# Altium schematic symbol library IMR_LIB_SCH.SchLib: 118 symbols
Pins are listed as number, name and electrical type; pins without a type are passive.

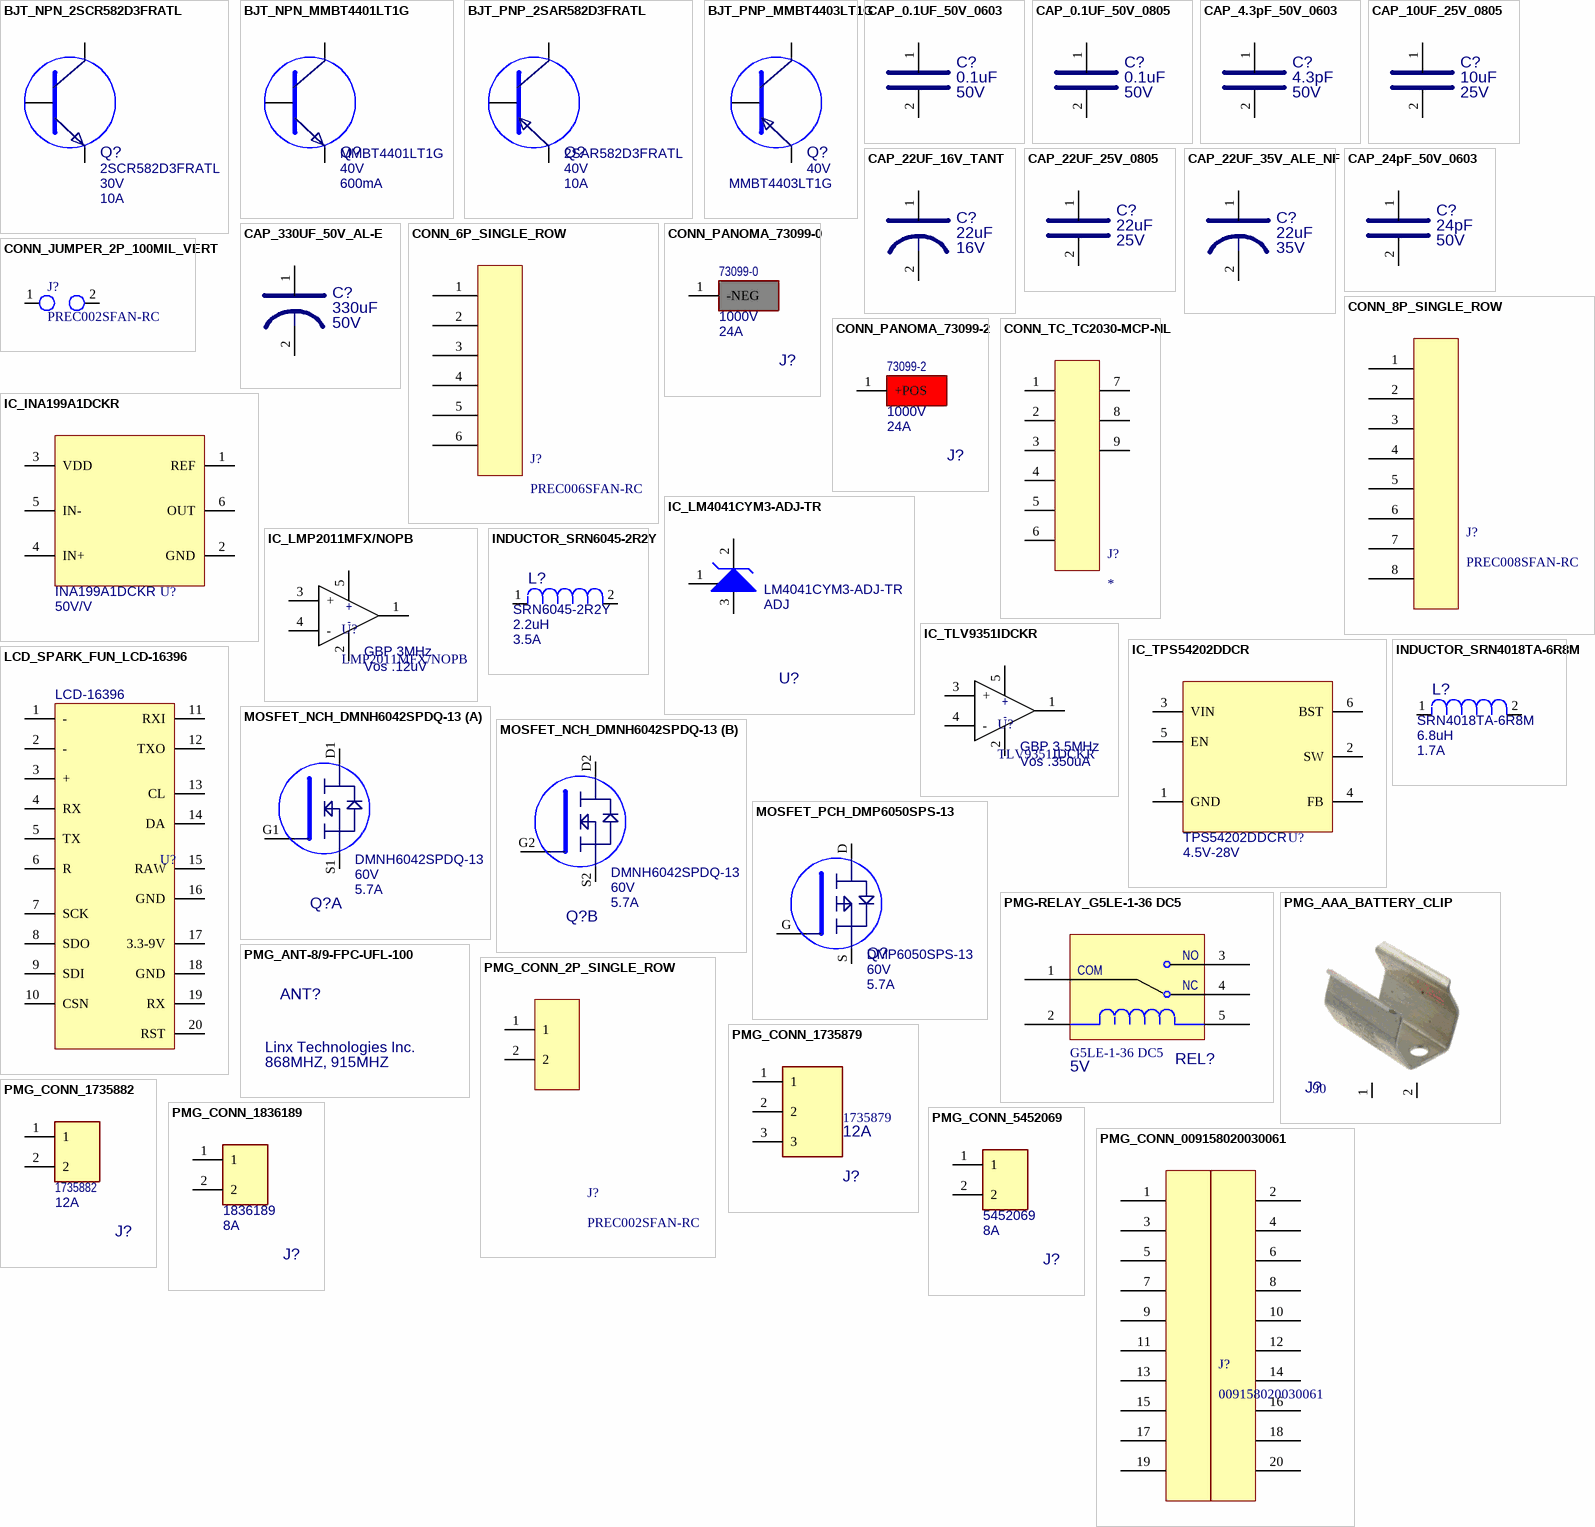
[diagram p0: symbols BJT_NPN_2SCR582D3FRATL to PMG_CONN_009158020030061]

## BJT_NPN_2SCR582D3FRATL
designator Q?, comment value 30V  Current: 10A  (hidden comment: 2SCR582D3FRATL)
TRANS NPN 30V 10A TO-252; MFG: Rohm Semiconductor; Supplier 1: Digi-Key; Supplier Part Number 1: 846-2SCR582D3FRATLCT-ND; Case/Package: TO-252; Unit Price: 1.76; MFG_PN: 2SCR582D3FRATL
footprint TO-252 (TO-252, TO-252-3, DPAK)
pins: 1 B, 2 E, 3 C

## BJT_NPN_MMBT4401LT1G
designator Q?, comment value 40V  Current: 600mA  (hidden comment: MMBT4401LT1G)
TRANS NPN 40V 0.6A SOT23-3; MFG: ON Semiconductor; Supplier 1: Digi-Key; Supplier Part Number 1: MMBT4401LT1GOSCT-ND; Case/Package: SOT-23; Unit Price: .13; MFG_PN: MMBT4401LT1G
footprint SOT-23 (SOT23-3)
pins: 1 B, 2 E, 3 C

## BJT_PNP_2SAR582D3FRATL
designator Q?, comment value 40V  Current: 10A  (hidden comment: 2SAR582D3FRATL)
TRANS PNP 40V 0.6A SOT23-3; MFG: Rohm Semiconductor; Supplier 1: Digi-Key; Supplier Part Number 1: 846-2SAR582D3FRATLCT-ND; Case/Package: TO-252; Unit Price: 1.59; MFG_PN: 2SAR582D3FRATL
footprint TO-252 (TO-252, TO-252-3, DPAK)
pins: 1 B, 2 E, 3 C

## BJT_PNP_MMBT4403LT1G
designator Q?, comment value 40V  (hidden comment: MMBT4403LT1G)
TRANS PNP 40V 0.6A SOT23-3; MFG: ON Semiconductor; Supplier 1: Digi-Key; Supplier Part Number 1: MMBT4403LT1GOSCT-ND; Case/Package: SOT-23; Unit Price: .13; MFG_PN: MMBT4403LT1G
footprint SOT-23 (SOT23-3)
pins: 1 B, 2 E, 3 C

## CAP_0.1UF_50V_0603
designator C?, comment value 0.1uF  VOLTAGE: 50V  (hidden comment: CC0603KRX7R9BB104)
CAP CER 0.1UF 50V X7R 0603; MFG: Yageo; TOLERANCE: 10%; MFG_PN: CC0603KRX7R9BB104; Supplier 1: Digi-Key; Supplier Part Number 1: 311-1344-1-ND; Case/Package: 0603; Unit Price: 0.10
footprint CAP_0603 (CAP 0603 50V)
pins: 1, 2

## CAP_0.1UF_50V_0805
designator C?, comment value 0.1uF  VOLTAGE: 50V  (hidden comment: 08055C104KAT2A)
CAP CER 0.1UF 50V X7R 0805; MFG: AVX; TOLERANCE: 10%; MFG_PN: 08055C104KAT2A; Supplier 1: Digi-Key; Supplier Part Number 1: 478-1395-1-ND; Case/Package: 0805
footprint CAP_0805
pins: 1, 2

## CAP_4.3pF_50V_0603
designator C?, comment value 4.3pF  VOLTAGE: 50V  (hidden comment: CC0603CRNPO9BN4R3)
CAP CER 4.3PF 50V NPO 0603; MFG: Yageo; TOLERANCE: .25pF; MFG_PN: CC0603CRNPO9BN4R3; Supplier 1: Digi-Key; Supplier Part Number 1: 311-3858-1-ND; Case/Package: 0603; Unit Price: 0.10
footprint CAP_0603 (CAP 0603 50V)
pins: 1, 2

## CAP_10UF_25V_0805
designator C?, comment value 10uF  VOLTAGE: 25V  (hidden comment: TMK212BBJ106KG-T)
CAP CER 10UF 25V X5R 0805; MFG: Taiyo Yuden; TOLERANCE: 10%; MFG_PN: TMK212BBJ106KG-T; Supplier 1: Digi-Key; Supplier Part Number 1: 587-2985-1-ND; Case/Package: 0805; Unit Price: .21
footprint CAP_0805
pins: 1, 2

## CAP_22UF_16V_TANT
designator C?, comment value 22uF  VOLTAGE: 16V  (hidden comment: 293D226X9016B2TE3)
CAP TANT 22UF 10% 16V 3528 (1411); MFG: Vishay Sprague; MFG_PN: 293D226X9016B2TE3; TOLERANCE: 10%; Supplier 1: Digi-Key; Supplier Part Number 1: 718-1138-1-ND; Unit Price: 0.59
footprint PMG_CAP_TANT_3528 (TANTALUM CAPACITOR 3528)
pins: 1, 2

## CAP_22UF_25V_0805
designator C?, comment value 22uF  VOLTAGE: 25V  (hidden comment: CC0805MKX5R8BB226)
CAP CER 22UF 25V X5R 0805; MFG: Yageo; TOLERANCE: 20%; MFG_PN: CC0805MKX5R8BB226; Supplier 1: Digi-Key; Supplier Part Number 1: 311-1903-1-ND; Case/Package: 0805; Unit Price: .47
footprint CAP_0805
pins: 1, 2

## CAP_22UF_35V_ALE_NF
designator C?, comment value 22uF  VOLTAGE: 35V  (hidden comment: UZS1C220MCL1GB)
CAP, AL E, 22UF, 35V, 20%, ROHS; MFG: NICHICON; MFG_PN: UZS1C220MCL1GB; TOLERANCE: 20%; Supplier 1: Digi-Key; Supplier Part Number 1: 493-10138-1-ND
footprint PMG_CAP_ALE_SMD_6.6x6.6 (CAP_ALE BODY SIZE 6.6mm x 6.6mm 3.9mm Tall)
pins: 1, 2

## CAP_24pF_50V_0603
designator C?, comment value 24pF  VOLTAGE: 50V  (hidden comment: CC0603JRNPO9BN240)
CAP CER 24PF 50V C0G/NPO 0603; MFG: Yageo; TOLERANCE: 5%; MFG_PN: CC0603JRNPO9BN240; Supplier 1: Digi-Key; Supplier Part Number 1: 311-1772-1-ND; Case/Package: 0603; Unit Price: 0.11
footprint CAP_0603 (CAP 0603 50V)
pins: 1, 2

## CAP_330UF_50V_AL-E
designator C?, comment value 330uF  VOLTAGE: 50V  (hidden comment: EEV-FK1H331Q)
CAP AL-E 330UF 20% 50V SMD; MFG: Panasonic; MFG_PN: EEV-FK1H331Q; TOLERANCE: 20%; Supplier 1: Digi-Key; Supplier Part Number 1: PCE3475CT-ND; Unit Price: 1.41
footprint PANASONIC_EEEFK0J332AQ (SMD 14.00mm Height)
pins: 1, 2

## CONN_6P_SINGLE_ROW
designator J?, comment PREC006SFAN-RC
CONN HEADER VERT 6POS 2.54MM; MFG: Sullins Connector Solutions; Case/Package: 6P_2.54MM; MFG_PN: PREC006SFAN-RC; Supplier 1: Digi-Key; Supplier Part Number 1: S1212EC-06-ND; Value: *; Unit Price: 0.16
footprint HDR_1X6_100MILL (SINGLE ROW 6 PIN HDR 2.54MM)
pins: 1, 2, 3, 4, 5, 6

## CONN_8P_SINGLE_ROW
designator J?, comment PREC008SFAN-RC
CONN HEADER VERT 8POS 2.54MM; MFG: Sullins Connector Solutions; Case/Package: 8P_2.54MM; MFG_PN: PREC008SFAN-RC; Supplier 1: Digi-Key; Supplier Part Number 1: S1212EC-08-ND; Value: *
footprint HDR_1X8_100MILL (SINGLE ROW 8 PIN HDR 2.54MM)
pins: 1, 2, 3, 4, 5, 6, 7, 8

## CONN_JUMPER_2P_100MIL_VERT
designator J?, comment PREC002SFAN-RC
CONN HEADER VERT 2POS 2.54MM; MFG: Sullins Connector Solutions; Case/Package: 2P_2.54MM; MFG_PN: PREC002SFAN-RC; Supplier 1: Digi-Key; Supplier Part Number 1: S1212EC-02-ND; Value: *; Unit Price: .07
footprint HDR_1X2_100MILL (SINGLE ROW 2 PIN HDR 2.54MM)
pins: 1, 2

## CONN_PANOMA_73099-0
designator J?, comment Current: 24A  Voltage: 1000V  (hidden comment: 73099-0)
CONN 4mm Banana Socket Right Angle PCB BLK; MFG: Pomona; Case/Package: 73099-0; Supplier 1: DigiKey; Supplier Part Number 1: 501-73099-0-ND; Unit Price: 10.39; MFG_PN: 73099-0
footprint Pomona_73099-0 (Connector Black 4mm Banana Socket Right Angle)
pins: 1 -NEG

## CONN_PANOMA_73099-2
designator J?, comment Current: 24A  Voltage: 1000V  (hidden comment: 73099-2)
CONN 4mm Banana Socket Right Angle PCB BLK; MFG: pomona; Case/Package: 73099-2; Supplier 1: DigiKey; Supplier Part Number 1: 501-73099-2-ND; Unit Price: 10.39; MFG_PN: 73099-2
footprint Pomona_73099-2 (Connector Red 4mm Banana Socket Right Angle)
pins: 1 +POS

## CONN_TC_TC2030-MCP-NL
designator J?  (no BOM)
CABLE TAG-CONNECT IN-CIRCUIT; MFG: Tag-Connect LLC; MFG_PN: TC2030-MCP-NL; Case/Package: *; Supplier 1: Digi-Key; Supplier Part Number 1: TC2030-MCP-NLTC-ND; Value: *
footprint TC2030-MCP-NL-
pins: 1, 2, 3, 4, 5, 6, 7, 8, 9

## IC_INA199A1DCKR
designator U?, comment value 50V/V  (hidden comment: INA199A1DCKR)
IC CURRENT SENSE 1.5% SC70-6; MFG: Texas Instruments; Case/Package: SC-70-6; Supplier 1: Digi-Key; Supplier Part Number 1: 296-27329-1-ND; Unit Price: .45; MFG_PN: INA199A1DCKR
footprint SC-70-6 (6-TSSOP, SC-88, SOT-363)
pins: 1 REF, 2 GND, 3 VDD, 4 IN+, 5 IN-, 6 OUT

## IC_LM4041CYM3-ADJ-TR
designator U?, comment value ADJ  (hidden comment: LM4041CYM3-ADJ-TR)
IC VREF SHUNT ADJ 0.5% SOT23-3; MFG: Microchip; Case/Package: SOT-23-3; Supplier 1: Digi-Key; Supplier Part Number 1: 576-1049-1-ND; Unit Price: .39; MFG_PN: LM4041CYM3-ADJ-TR
footprint SOT-23 (SOT23-3)
pins: 1 FB, 2 K, 3 A

## IC_LMP2011MFX/NOPB
designator U?, comment LMP2011MFX/NOPB  value GBP 3MHz  Vos: Vos .12uV
IC OPAMP GP 1 CIRCUIT SOT23-5; MFG: Texas Instruments; Uint Price: 2.33; MFG_PN: LMP2011MFX/NOPB; Package/Case: SOT-23-5; Supplier 1: DigiKey; Supplier Par Number 1: LMP2011MFX/NOPBCT-ND
footprint SOT-23-5 (AKA SC-74A, SOT-753)
pins: 1, 2, 3 +, 4 -, 5

## IC_TLV9351IDCKR
designator U?, comment TLV9351IDCKR  value GBP 3.5MHz  Vos: Vos .350uA
IC OPAMP GP 1 CIRCUIT SC70-5; MFG: Texas Instruments; Uint Price: .49; MFG_PN: TLV9351IDCKR; Package/Case: SOT-353; Supplier 1: DigiKey; Supplier Par Number 1: 296-TLV9351IDCKRCT-ND
footprint SOT-353 (AKA SC-70-5, 5-TSSOP)
pins: 1, 2, 3 +, 4 -, 5

## IC_TPS54202DDCR
designator U?, comment value 4.5V-28V  (hidden comment: TPS54202DDCR)
IC REG BUCK ADJ 2A SOT23; MFG: Texas Instruments; Case/Package: SOT-23-6; Supplier 1: Digi-Key; Supplier Part Number 1: 296-TPS54202DDCRCT-ND; Unit Price: .97; MFG_PN: TPS54202DDCR
footprint SOT-23-6 (SOT-23-6 AKA TSOT-23-6)
pins: 1 GND, 2 SW, 3 VIN, 4 FB, 5 EN, 6 BST

## INDUCTOR_SRN4018TA-6R8M
designator L?, comment value 6.8uH  Current: 1.7A  (hidden comment: SRN4018TA-6R8M)
FIXED IND 6.8UH 1.7A 98 MOHM SMD; MFG: Bourns Inc.; TOLERANCE: 20%; Supplier 1: Digi-Key; Supplier Part Number 1: SRN4018TA-6R8MCT-ND; Unit Price: .48; MFG_PN: SRN4018TA-6R8M
footprint SRN4018TA (BOURNS SERIES SRN4018TA-6R8M)
pins: 1, 2

## INDUCTOR_SRN6045-2R2Y
designator L?, comment value 2.2uH  Current: 3.5A  (hidden comment: SRN6045-2R2Y)
FIXED IND 2.2UH 3.5A 25.1MOHM SM; MFG: Bourns Inc.; TOLERANCE: 20%; Supplier 1: Digi-Key; Supplier Part Number 1: SRN6045-2R2YCT-ND; Unit Price: .55; MFG_PN: SRN6045-2R2Y
footprint SRN6045 (BOURNS SERIES SRN6045)
pins: 1, 2

## LCD_SPARK_FUN_LCD-16396
designator U?, comment LCD-16396
LCD 16X2; MFG: SparkFun; Supplier 1: Mouser; MFG_PN: LCD-16396
footprint LCD-16396 (LCD 16X2)
pins: 1 -, 2 -, 3 +, 4 RX, 5 TX, 6 R, 7 SCK, 8 SDO, 9 SDI, 10 CSN, 11 RXI, 12 TXO, 13 CL, 14 DA, 15 RAW, 16 GND, 17 3.3-9V, 18 GND, 19 RX, 20 RST

## MOSFET_NCH_DMNH6042SPDQ-13
designator Q?, comment value 60V  Current: 5.7A  (hidden comment: DMNH6042SPDQ-13)
MOSFET N-CH 60V 115MA SOT23-3; MFG: Diodes Incorporated; Case/Package: 8-PowerTDFN; Supplier 1: Digi-Key; Supplier Part Number 1: DMNH6042SPDQ-13DICT-ND; Unit Price: 1.50; MFG_PN: DMNH6042SPDQ-13
footprint TRANS_DMP2002UPS-13
part A pins: D1 D, G1 G, S1 S
part B pins: D2 D, G2 G, S2 S

## MOSFET_PCH_DMP6050SPS-13
designator Q?, comment value 60V  Current: 5.7A  (hidden comment: DMP6050SPS-13)
MOSFET P-CH 60V 5.7A PWRDI5060-8; MFG: Diodes Inc; Supplier 1: Digi-Key; Supplier Part Number 1: DMP6050SPS-13DICT-ND; Unit Price: 1.07; MFG_PN: DMP6050SPS-13
footprint DMP3007SPS13
pins: D, G, S

## PMG-RELAY_G5LE-1-36 DC5
designator REL?, comment value 5V  (hidden comment: G5LE-1-36 DC5)
RELAY GEN PURPOSE SPDT 10A 5V; MFG: Omron Electronics Inc-EMC Div; Case/Package: 1 Form C; Supplier 1: Digi-Key; Supplier Part Number 1: G5LE-1-36DC5-ND; MFG_PN: G5LE-1-36 DC5
footprint PMG_G5LE-1 (Relay G5LE-1-36 DC5)
pins: 1 COM, 2, 3 NO, 4 NC, 5

## PMG_AAA_BATTERY_CLIP
designator J?, comment 90
Cylindrical Battery Contacts, Clips, Holders & Springs AAA BATTERY CLIP; MFG: Keystone Electronics; Case/Package: 90; Supplier 1: Digi-Key; Supplier Part Number 1: 36-90-ND; Unit Price: 0.39; MFG_PN: 90
footprint KEYSTONE_90 (KEYSTONE ELECTRONICS AAA BATTERY HOLDER)
pins: 1, 2

## PMG_ANT-8/9-FPC-UFL-100
designator ANT?, comment MFG: Linx Technologies Inc.  FREQUENCY: 868MHZ, 915MHZ  (hidden comment: ANT-8/9-FPC-UFL-100)
RES SMD 931 OHM 1% 1/10W 0603; Case/Package: ADHESIVE; MFG_PN: ANT-8/9-FPC-UFL-100; Supplier 1: Digi-Key; Supplier Part Number 1: 343-ANT-8/9-FPC-UFL-100-ND; Unit Price: 5.95

## PMG_CONN_2P_SINGLE_ROW
designator J?, comment PREC002SFAN-RC
CONN HEADER VERT 2POS 2.54MM; MFG: Sullins Connector Solutions; Case/Package: 2P_2.54MM; MFG_PN: PREC002SFAN-RC; Supplier 1: Digi-Key; Supplier Part Number 1: S1212EC-02-ND; Value: *; Unit Price: .07
footprint HDR_1X2_100MILL (SINGLE ROW 2 PIN HDR 2.54MM)
pins: 1, 2

## PMG_CONN_1735879
designator J?, comment value 12A  (hidden comment: 1735879)
TERM BLOCK HDR 3POS 90DEG 5.08MM; MFG: Phoenix Contact; Case/Package: 1735879; Supplier 1: Digi-Key; Supplier Part Number 1: 277-13847-ND; Unit Price: 1.72; MFG_PN: 1735879
footprint PMG_CONN_1735879 (TERM BLOCK HDR 3POS 90DEG 5.08MM)
pins: 1, 2, 3

## PMG_CONN_1735882
designator J?, comment value 12A  (hidden comment: 1735882)
TERM BLOCK HDR 2POS 90DEG 5.08MM; MFG: Phoenix Contact; Case/Package: 1735882; Supplier 1: Digi-Key; Supplier Part Number 1: 277-8637-ND; Unit Price: 1.14; MFG_PN: 1735882
footprint PMG_CONN_1735879 (TERM BLOCK HDR 3POS 90DEG 5.08MM)
pins: 1, 2

## PMG_CONN_1836189
designator J?, comment value 8A  (hidden comment: 1836189)
TERM BLOCK HDR 2POS 90DEG 5.08MM GREEN; MFG: Phoenix Contact; Case/Package: MC1.5; Supplier 1: Digi-Key; Supplier Part Number 1: 277-6377-ND; Unit Price: 0.90; MFG_PN: 1836189
footprint PMG_CONN_1836189 (TERM BLOCK HDR 3POS 90DEG 5.08MM GREEN)
pins: 1, 2

## PMG_CONN_5452069
designator J?, comment value 8A  (hidden comment: 5452069)
TERM BLOCK HDR 2POS 90DEG 5.08MM BLACK; MFG: Phoenix Contact; Case/Package: BCH-508HS; Supplier 1: Digi-Key; Supplier Part Number 1: 277-11394-ND; Unit Price: 0.63; MFG_PN: 5452069
footprint PMG_CONN_5452069 (TERM BLOCK HDR 3POS 90DEG 5.08MM BLACK)
pins: 1, 2

## PMG_CONN_009158020030061
designator J?, comment 009158020030061
CONN STACKING 20 POS SM; MFG: AVX Corporation; Case/Package: 009158020030061; MFG_PN: 009158020030061; Supplier 1: Digi-Key; Supplier Part Number 1: 478-009158020030061TR-ND; Value: *; Unit Price: 0.8845
footprint PMG_CONN_009158020030061 (AVX CONN 009158020030061)
pins: 1, 2 1, 3, 4, 5, 6, 7, 8, 9, 10, 11, 12, 13, 14, 15, 16, 17, 18, 19, 20

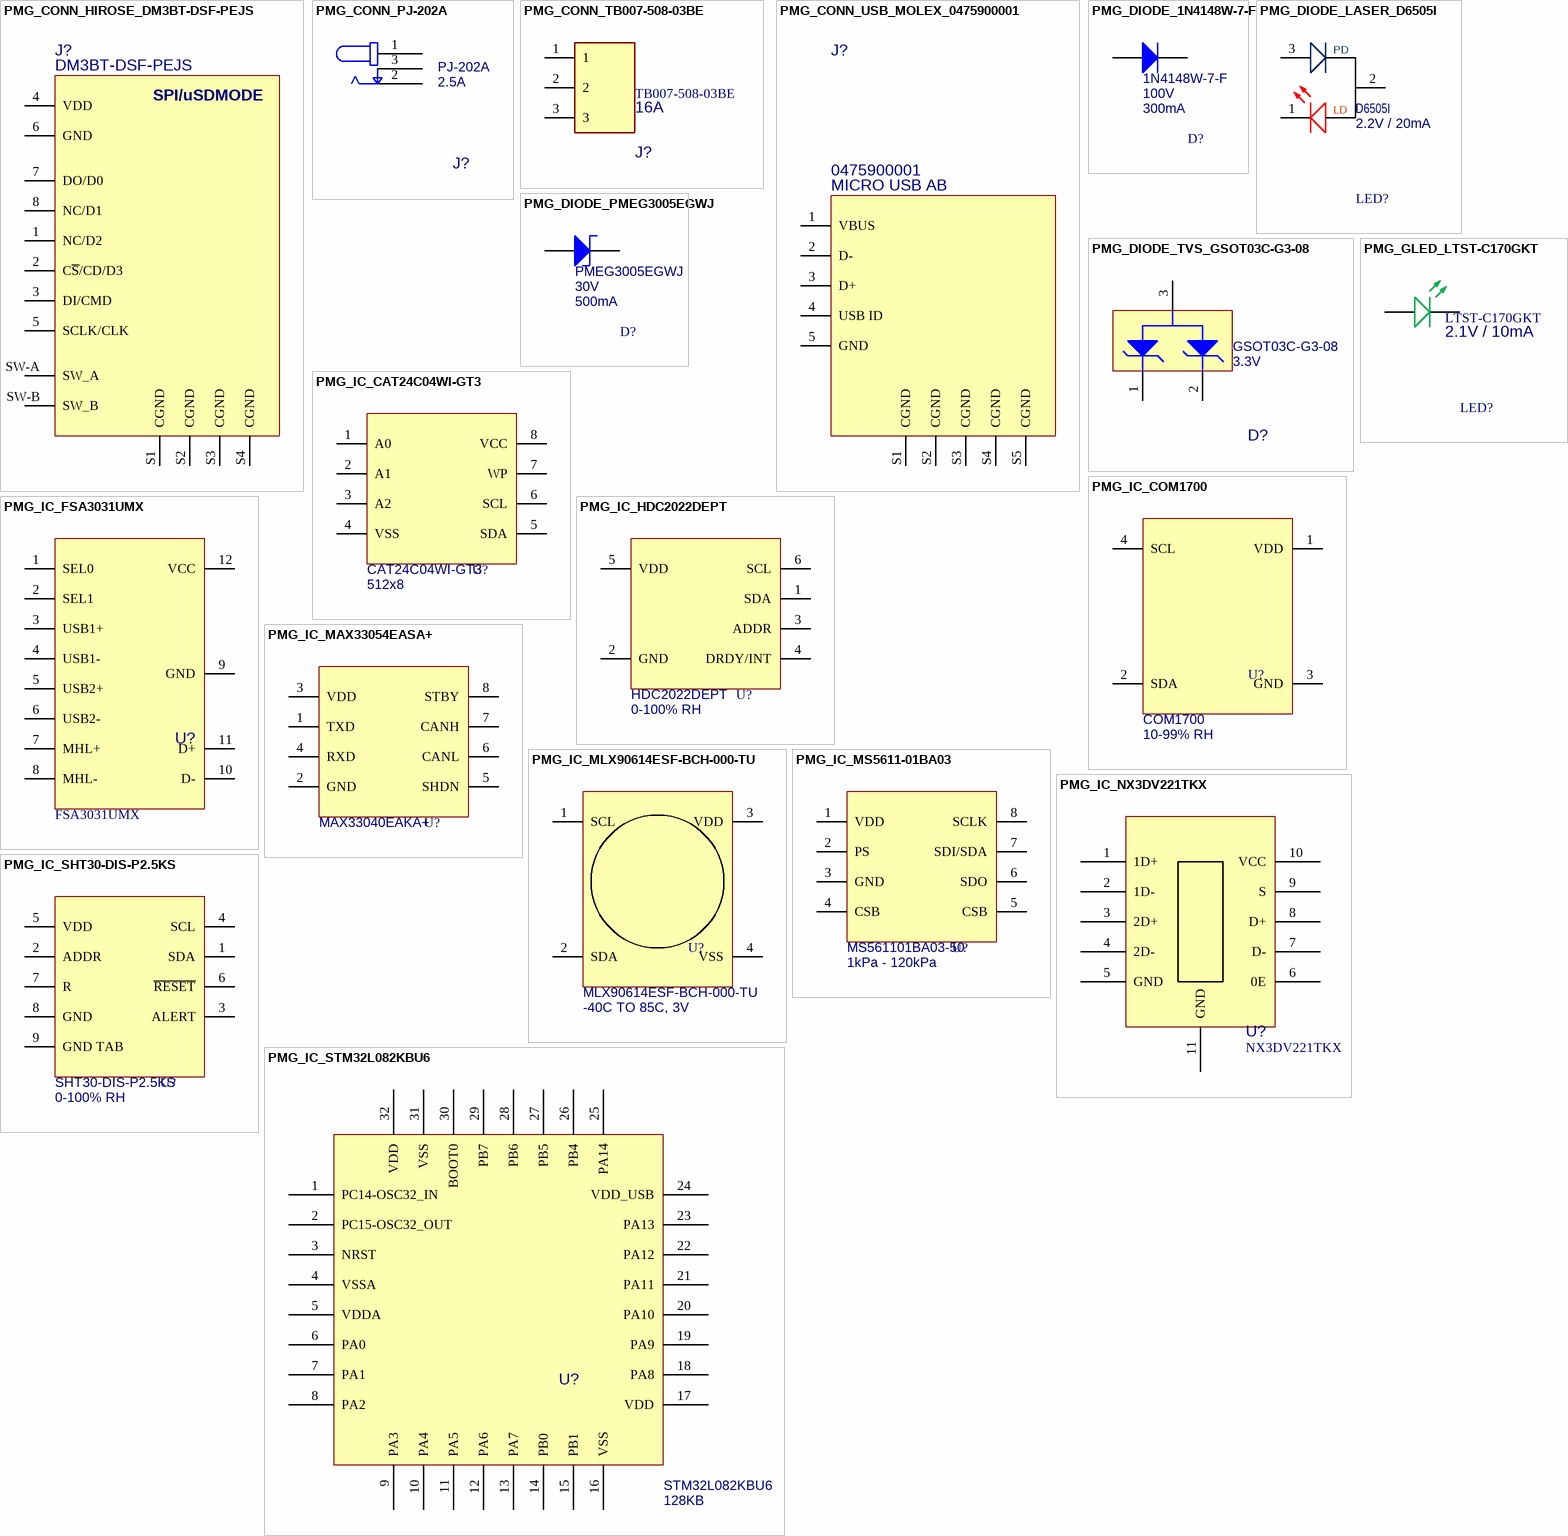
[diagram p1: symbols PMG_CONN_HIROSE_DM3BT-DSF-PEJS to PMG_IC_STM32L082KBU6]

## PMG_CONN_HIROSE_DM3BT-DSF-PEJS
designator J?, comment DM3BT-DSF-PEJS
CONN MICRO SD CARD PUSH-PUSH R/A; MFG: Hirose Electric Co Ltd; MFG_PN: DM3BT-DSF-PEJS; Supplier 1: Digi-Key; Supplier Part Number 1: HR1942CT-ND; Unit Price: 2.3; VALUE: DM3BT-DSF-PEJS
footprint HRS_DM3BT-DSF-PEJS (HIROSE_DM3BT-DSF-PEJS)
pins: 1 NC/D2, 2 C~{S}/CD/D3, 3 DI/CMD, 4 VDD, 5 SCLK/CLK, 6 GND, 7 DO/D0, 8 NC/D1, S1 CGND, S2 CGND, S3 CGND, S4 CGND, SW-A SW_A, SW-B SW_B
text: SPI/uSDMODE

## PMG_CONN_PJ-202A
designator J?, comment value 2.5A  (hidden comment: PJ-202A)
CONN PWR JACK 2X5.5MM KINKED PIN; MFG: CUI Devices; Supplier 1: Digi-Key; Supplier Part Number 1: CP-202A-ND; Unit Price: 0.60; MFG_PN: PJ-202A
footprint PMG_CONN_PJ-202A (CUI PJ-202A CONNECTOR)
pins: 1, 2, 3

## PMG_CONN_TB007-508-03BE
designator J?, comment value 16A  (hidden comment: TB007-508-03BE)
TERMINAL BLOCK, SCREW TYPE, 5.08; MFG: CUI Devices; Supplier 1: Digi-Key; Supplier Part Number 1: 102-6204-ND; MFG_PN: TB007-508-03BE
footprint PMG_TB007-508-03BE (CONN RELAY BLOCK)
pins: 1, 2, 3

## PMG_CONN_USB_MOLEX_0475900001
designator J?, comment value MICRO USB AB  (hidden comment: 0475900001)
CONN RCPT MICRO USB AB 5P SMD RA; MFG: Molex; Supplier 1: Digi-Key; Supplier Part Number 1: WM17144CT-ND; Unit Price: .78; MFG_PN: 0475900001
footprint MICRO_USB_AB_MOLEX_0475900001 (MICRO USB AB MOLEX 0475900001)
pins: 1 VBUS, 2 D-, 3 D+, 4 USB ID, 5 GND, S1 CGND, S2 CGND, S3 CGND, S4 CGND, S5 CGND

## PMG_DIODE_1N4148W-7-F
designator D?, comment value 100V  CURRENT: 300mA  (hidden comment: 1N4148W-7-F)
DIODE GEN PURP 100V 300MA SOD123; MFG: Diodes Incorporated; Case/Package: SOD-123; Supplier 1: Digi-Key; Supplier Part Number 1: 1N4148W-FDICT-ND; Unit Price: 0.16; MFG_PN: 1N4148W-7-F
footprint SOD123
pins: 1 A, 2 K

## PMG_DIODE_LASER_D6505I
designator LED?, comment value 2.2V / 20mA  (hidden comment: D6505I)
LASER DIODE 650NM 5MW TO18; MFG: US-Lasers Inc.; Case/Package: 0805; Supplier 1: Digi-Key; Supplier Part Number 1: 38-1007-ND; Unit Price: 12.50; MFG_PN: D6505I
footprint D6505I (D6505I LASER DIOIDE)
pins: 1 LD, 2 K, 3 PD

## PMG_DIODE_PMEG3005EGWJ
designator D?, comment value 30V  CURRENT: 500mA  (hidden comment: PMEG3005EGWJ)
DIODE GEN PURP 100V 300MA SOD123; MFG: Nexperia USA Inc.; Case/Package: SOD-123; Supplier 1: Digi-Key; Supplier Part Number 1: 1727-7342-1-ND; Unit Price: 0.29; MFG_PN: PMEG3005EGWJ
footprint SOD123
pins: 1 A, 2 K

## PMG_DIODE_TVS_GSOT03C-G3-08
designator D?, comment value 3.3V  (hidden comment: GSOT03C-G3-08)
TVS DIODE 3.3V 12.3V SOT23; MFG: Vishay Semiconductor; POWER: 30A (8/20us); Case/Package: SOT-23; Supplier 1: Digi-Key; Supplier Part Number 1: GSOT03C-G3-08GICT-ND; Unit Price: .44; MFG_PN: GSOT03C-G3-08
footprint SOT-23 (SOT23-3)
pins: 1 A1, 2 A2, 3 A

## PMG_GLED_LTST-C170GKT
designator LED?, comment value 2.1V / 10mA  (hidden comment: LTST-C170GKT)
DIODE, LED GREEN CLEAR SMD; MFG: Lite-On Inc.; Case/Package: 0805; Supplier 1: Digi-Key; Supplier Part Number 1: 160-1179-1-ND; Unit Price: 0.30; MFG_PN: LTST-C170GKT
footprint PMG_LTST-C170GKT (LTST-C170GKT)
pins: 1 A, 2 K

## PMG_IC_CAT24C04WI-GT3
designator U?, comment value 512x8  (hidden comment: CAT24C04WI-GT3)
IC EEPROM 4KBIT I2C 400KHZ 8SOIC; MFG: On Semi; Case/Package: 8-SOIC; Supplier 1: Digi-Key; Supplier Part Number 1: CAT24C04WI-GT3OSCT-ND; Unit Price: .18; MFG_PN: CAT24C04WI-GT3
footprint SOIC-8_54 (SOIC 8 PIN IC 5.4mm PIN TO PIN WIDTH)
pins: 1 A0, 2 A1, 3 A2, 4 VSS, 5 SDA, 6 SCL, 7 WP, 8 VCC

## PMG_IC_COM1700
designator U?, comment value 10-99% RH  (hidden comment: COM1700)
AM2320 DIGITAL TEMPERATURE AND H; MFG: Pimoroni Ltd; Case/Package: TH 4PIN; Supplier 1: Digi-Key; Supplier Part Number 1: 1778-1179-ND; Unit Price: 3.90; MFG_PN: COM1700
footprint COM1700 (AOSONG COM1700)
pins: 1 VDD, 2 SDA, 3 GND, 4 SCL

## PMG_IC_FSA3031UMX
designator U?, comment FSA3031UMX
IC INTERFACE SPECIALIZED 12UMLP; MFG: ON Semiconductor; Case/Package: 10-DFN; Supplier 1: Digi-Key; Supplier Part Number 1: FSA3031UMXCT-ND; Unit Price: .60; MFG_PN: FSA3031UMX
footprint UFQFN-12 (ON SMEMICONDUCTOR 12-UMLP 1.8x1.8)
pins: 1 SEL0, 2 SEL1, 3 USB1+, 4 USB1-, 5 USB2+, 6 USB2-, 7 MHL+, 8 MHL-, 9 GND, 10 D-, 11 D+, 12 VCC

## PMG_IC_HDC2022DEPT
designator U?, comment value 0-100% RH  (hidden comment: HDC2022DEPT)
Humidity, Temperature Sensor I²C Output; MFG: Texas Instruments; Case/Package: HDCx; Supplier 1: Digi-Key; Supplier Part Number 1: 296-HDC2022DEPTCT-ND; Unit Price: 5.42; MFG_PN: HDC2022DEPT
footprint SON100P300X300X115-7N
pins: 1 SDA, 2 GND, 3 ADDR, 4 DRDY/INT, 5 VDD, 6 SCL

## PMG_IC_MAX33054EASA+
designator U?, comment MAX33040EAKA+
IC TRANSCEIVER HALF 1/1 SOT23-8; MFG: Maxim Integrated; VALUE: CAN 2.0; Case/Package: 8-SMD; Supplier 1: Digi-Key; Supplier Part Number 1: 175-MAX33040EAKA+-ND; Unit Price: 2.45; MFG_PN: MAX33040EAKA+
footprint SOT65P280X145-8N
pins: 1 TXD, 2 GND, 3 VDD, 4 RXD, 5 SHDN, 6 CANL, 7 CANH, 8 STBY

## PMG_IC_MLX90614ESF-BCH-000-TU
designator U?, comment value -40C TO 85C, 3V  (hidden comment: MLX90614ESF-BCH-000-TU)
SENSOR DGTL -40C-85C TO39; MFG: Melexis Technologies NV; Case/Package: TO-39; Supplier 1: Digi-Key; Supplier Part Number 1: MLX90614ESF-BCH-000-TU-ND; Unit Price: 37.20; MFG_PN: MLX90614ESF-BCH-000-TU
footprint PMG_MLX90614ESF-BCH-000-TU (TO-39 4 PIN)
pins: 1 SCL, 2 SDA, 3 VDD, 4 VSS

## PMG_IC_MS5611-01BA03
designator U?, comment value 1kPa - 120kPa  (hidden comment: MS561101BA03-50)
BAROMETRIC PRESSURE SENSOR; MFG: TE Connectivity Measurement; Case/Package: 8-SMD; Supplier 1: Digi-Key; Supplier Part Number 1: 223-1622-1-ND; Unit Price: 9.66; MFG_PN: MS561101BA03-50
footprint SON125P500X300X100-8N
pins: 1 VDD, 2 PS, 3 GND, 4 CSB, 5 CSB, 6 SDO, 7 SDI/SDA, 8 SCLK

## PMG_IC_NX3DV221TKX
designator U?, comment NX3DV221TKX
IC USB 2.0 SWITCH HS 10HVSON; MFG: NXP USA Inc.; Case/Package: 10-DFN; Supplier 1: Digi-Key; Supplier Part Number 1: 568-10368-1-ND; Unit Price: 0.56; MFG_PN: NX3DV221TKX
footprint PMG_NX3DV221TKX (SWDAT_IC USB 2.0 SWITCH HS 10HVSON)
pins: 1 1D+, 2 1D-, 3 2D+, 4 2D-, 5 GND, 6 0E, 7 D-, 8 D+, 9 S, 10 VCC, 11 GND

## PMG_IC_SHT30-DIS-P2.5KS
designator U?, comment value 0-100% RH  (hidden comment: SHT30-DIS-P2.5KS)
Humidity Temperature Sensor 0 ~ 100% RH I²C ±2% RH 8 s Surface Mount; MFG: Sensirion; Case/Package: HDCx; Supplier 1: Digi-Key; Supplier Part Number 1: 1649-1082-1-ND; Unit Price: 5.50; MFG_PN: SHT30-DIS-P2.5KS
footprint SENSIRION_SHT31x (Sensirion Temp Humidity Sensor)
pins: 1 SDA, 2 ADDR, 3 ALERT, 4 SCL, 5 VDD, 6 ~{RESET}, 7 R, 8 GND, 9 GND TAB

## PMG_IC_STM32L082KBU6
designator U?, comment value 128KB  (hidden comment: STM32L082KBU6)
IC, MICRO CONTROLLER MCU 32BIT 128KB FLASH 32QFPN; MFG: STMicroelectronics; Case/Package: 32QFN; Supplier 1: Digi-Key; Supplier Part Number 1: 497-18585-ND; Unit Price: 4.69; MFG_PN: STM32L082KBU6
footprint QFN50P500X500X60-33N
pins: 1 PC14-OSC32_IN, 2 PC15-OSC32_OUT, 3 NRST, 4 VSSA, 5 VDDA, 6 PA0, 7 PA1, 8 PA2, 9 PA3, 10 PA4, 11 PA5, 12 PA6, 13 PA7, 14 PB0, 15 PB1, 16 VSS, 17 VDD, 18 PA8, 19 PA9, 20 PA10, 21 PA11, 22 PA12, 23 PA13, 24 VDD_USB, 25 PA14, 26 PB4, 27 PB5, 28 PB6, 29 PB7, 30 BOOT0, 31 VSS, 32 VDD, 33 hidden to GND

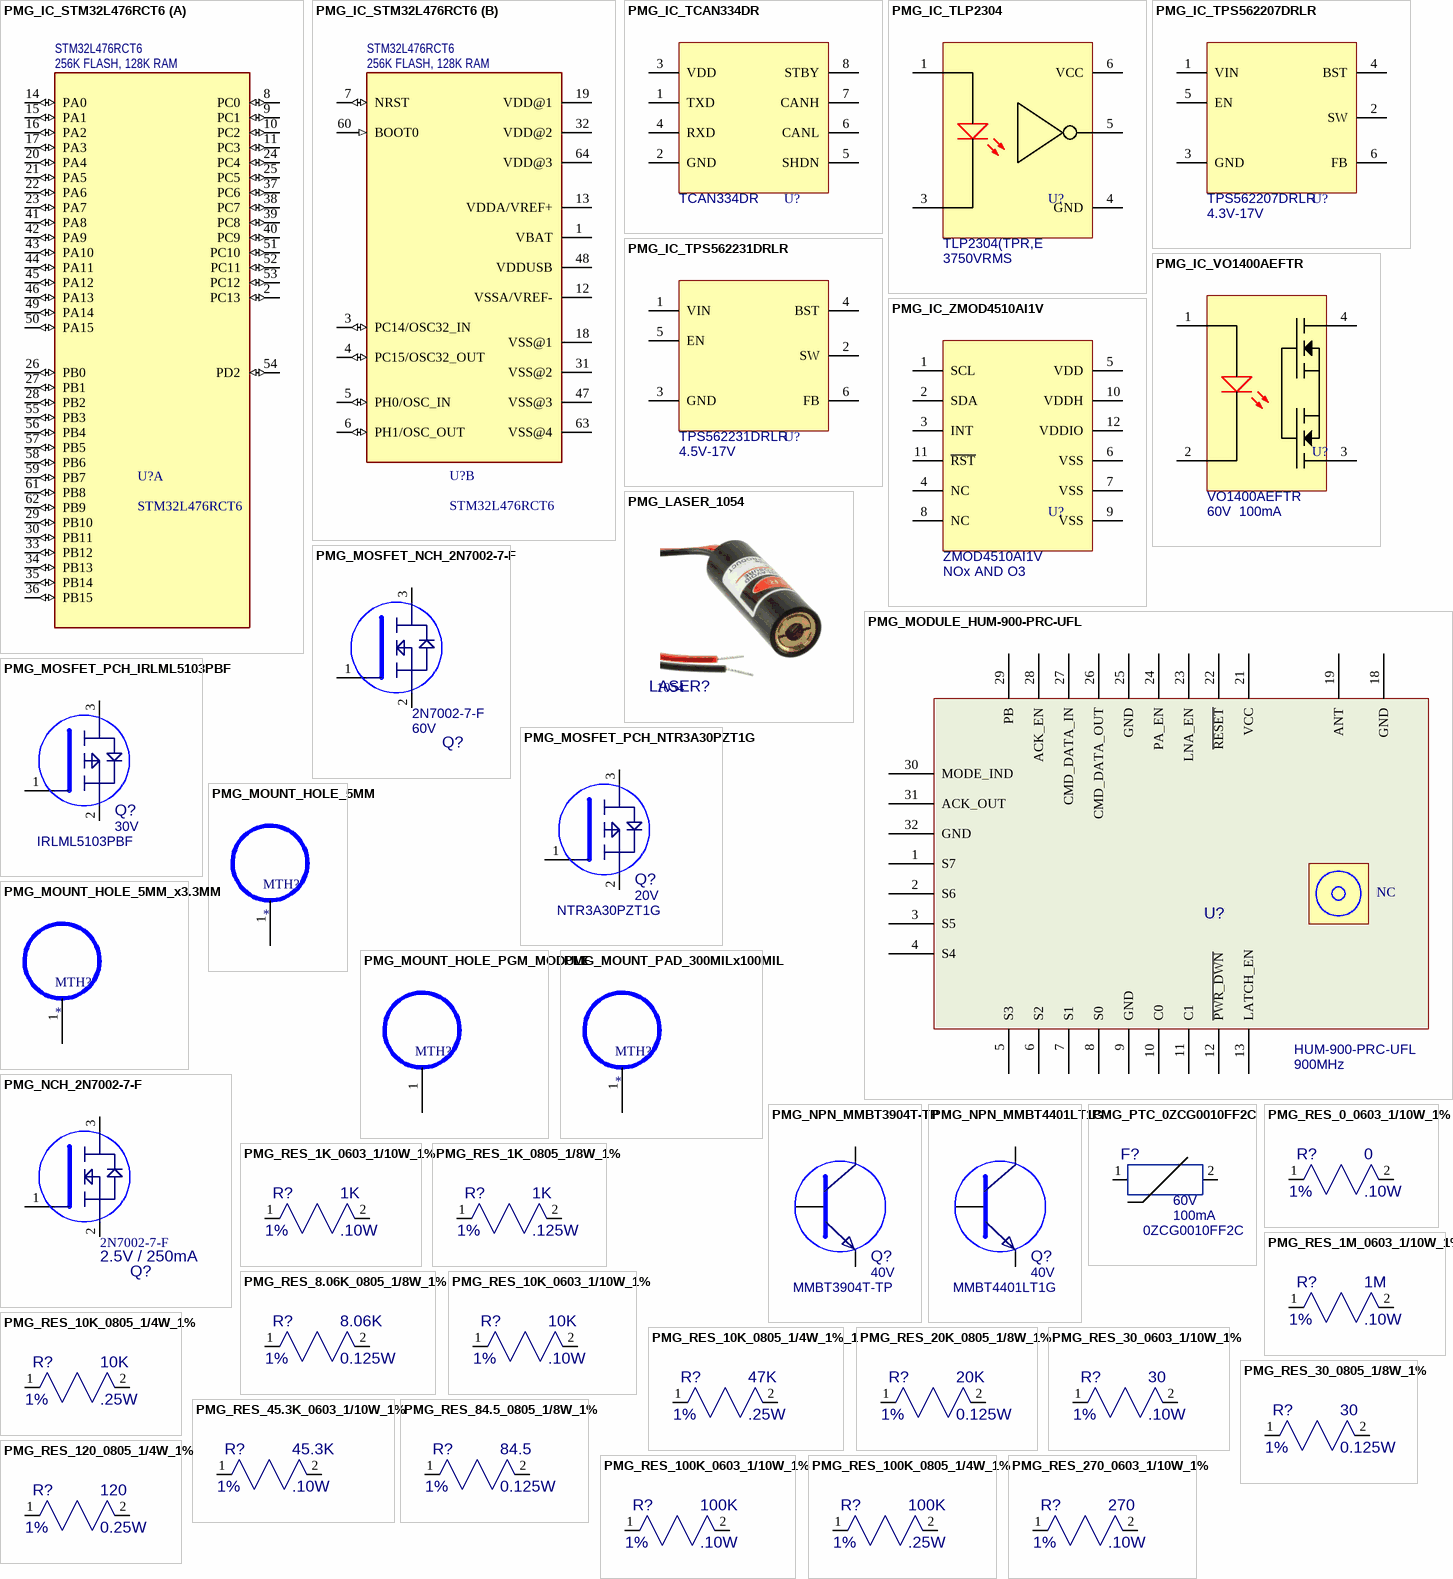
[diagram p2: symbols PMG_IC_STM32L476RCT6 to PMG_RES_270_0603_1/10W_1%]

## PMG_IC_STM32L476RCT6
designator U?, comment STM32L476RCT6  value 256K FLASH, 128K RAM
IC MCU 32BIT 256KB FLASH 64LQFP; MFG: STMicroelectronics; Supplier 1: 8.04; Supplier Part Number 1: 497-17541-ND; Unit Price: 8.04; Case/Package: LQFP-64; MFG_PN: STM32L476RCT6
footprint QFP50P120X120X160-64N
part A pins: 2 PC13 (io), 8 PC0 (io), 9 PC1 (io), 10 PC2 (io), 11 PC3 (io), 14 PA0 (io), 15 PA1 (io), 16 PA2 (io), 17 PA3 (io), 20 PA4 (io), 21 PA5 (io), 22 PA6 (io), 23 PA7 (io), 24 PC4 (io), 25 PC5 (io), 26 PB0 (io), 27 PB1 (io), 28 PB2 (io), 29 PB10 (io), 30 PB11 (io), 33 PB12 (io), 34 PB13 (io), 35 PB14 (io), 36 PB15 (io), 37 PC6 (io), 38 PC7 (io), 39 PC8 (io), 40 PC9 (io), 41 PA8 (io), 42 PA9 (io), 43 PA10 (io), 44 PA11 (io), 45 PA12 (io), 46 PA13 (io), 49 PA14 (io), 50 PA15 (io), 51 PC10 (io), 52 PC11 (io), 53 PC12 (io), 54 PD2 (io), 55 PB3 (io), 56 PB4 (io), 57 PB5 (io), 58 PB6 (io), 59 PB7 (io), 61 PB8 (io), 62 PB9 (io)
part B pins: 1 VBAT (power), 3 PC14/OSC32_IN (io), 4 PC15/OSC32_OUT (io), 5 PH0/OSC_IN (io), 6 PH1/OSC_OUT (io), 7 NRST (io), 12 VSSA/VREF- (power), 13 VDDA/VREF+ (power), 18 VSS@1 (power), 19 VDD@1 (power), 31 VSS@2 (power), 32 VDD@2 (power), 47 VSS@3 (power), 48 VDDUSB (power), 60 BOOT0 (in), 63 VSS@4 (power), 64 VDD@3 (power)

## PMG_IC_TCAN334DR
designator U?, comment TCAN334DR
IC CAN TRANSCEIVER 1/1 8SOIC; MFG: Texas Instruments; VALUE: CAN 2.0; Case/Package: 8-SMD; Supplier 1: Digi-Key; Supplier Part Number 1: 296-44139-1-ND; Unit Price: 2.81; MFG_PN: TCAN334DR
footprint SOIC-8_54 (SOIC 8 PIN IC 5.4mm PIN TO PIN WIDTH)
pins: 1 TXD, 2 GND, 3 VDD, 4 RXD, 5 SHDN, 6 CANL, 7 CANH, 8 STBY

## PMG_IC_TLP2304
designator U?, comment value 3750VRMS  (hidden comment: TLP2304(TPR,E)
PHOTOCOUPLER HIGH SPEED 5PIN; MFG: Toshiba Semiconductor and Storage; Case/Package: 6-SO; Supplier 1: Digi-Key; Supplier Part Number 1: TLP2304(TPRECT-ND; Unit Price: 1.08; MFG_PN: TLP2304(TPR,E
footprint SO-5_TLP2304 (SO-5 PACKAGE TLP2304 PIN OUT)
pins: 1, 3, 4 GND, 5 OC, 6 VCC

## PMG_IC_TPS562207DRLR
designator U?, comment value 4.3V-17V  (hidden comment: TPS562207DRLR)
4.3-V TO 17-V INPUT, 2-A SYNCHRO; MFG: Texas Instruments; Case/Package: SOT-563; Supplier 1: Digi-Key; Supplier Part Number 1: 296-TPS562207DRLRCT-ND; Unit Price: .69; MFG_PN: TPS562207DRLR
footprint SOT-666 (SOT-563 AND SOT-666 COMPATIBLE)
pins: 1 VIN, 2 SW, 3 GND, 4 BST, 5 EN, 6 FB

## PMG_IC_TPS562231DRLR
designator U?, comment value 4.5V-17V  (hidden comment: TPS562231DRLR)
4.3-V TO 17-V INPUT, 2-A SYNCHRO; MFG: Texas Instruments; Case/Package: SOT-563; Supplier 1: Digi-Key; Supplier Part Number 1: 296-TPS562231DRLRCT-ND; Unit Price: .63; MFG_PN: TPS562231DRLR
footprint SOT-666 (SOT-563 AND SOT-666 COMPATIBLE)
pins: 1 VIN, 2 SW, 3 GND, 4 BST, 5 EN, 6 FB

## PMG_IC_VO1400AEFTR
designator U?, comment value 60V  100mA  (hidden comment: VO1400AEFTR)
DIODE, LED RED CLEAR SMD; MFG: Vishay Semiconductor Opto Division; Case/Package: 0805; Supplier 1: Digi-Key; Supplier Part Number 1: VO1400AEFCT-ND; Unit Price: 1.08; MFG_PN: VO1400AEFTR
footprint 4-SOP (SOIC254P695X242-4N)
pins: 1, 2, 3, 4

## PMG_IC_ZMOD4510AI1V
designator U?, comment value NOx AND O3  (hidden comment: ZMOD4510AI1V)
OAQ INTEGRATED SENSOR W/I2C OUTP; MFG: Renesas Electronics America Inc; Case/Package: LGA-12; Supplier 1: Digi-Key; Supplier Part Number 1: 800-4329-ND; Unit Price: 7.24; MFG_PN: ZMOD4510AI1V
footprint LGA-12 (RENESAS ZMOD4510 12-LGA PACKAGE)
pins: 1 SCL, 2 SDA, 3 INT, 4 NC, 5 VDD, 6 VSS, 7 VSS, 8 NC, 9 VSS, 10 VDDH, 11 ~{RST}, 12 VDDIO

## PMG_LASER_1054
designator LASER?, comment 1054  (graphical)
Laser Diode 650nm 5mW 2.8V ~ 5.2V 25mA Cylinder (10mm Dia); MFG: Adafruit Industries LLC; Case/Package: 1054; Supplier 1: Digi-Key; Supplier Part Number 1: 1528-1391-ND; Unit Price: 5.95; MFG_PN: 1054

## PMG_MODULE_HUM-900-PRC-UFL
designator U?, comment value 900MHz  (hidden comment: HUM-900-PRC-UFL)
RX TXRX MOD ISM < 1GHZ U.FL SMD; MFG: Linx Technologies Inc.; Case/Package: HUM-900-PRC-UFL; Supplier 1: Digi-Key; Supplier Part Number 1: HUM-900-PRC-UFL-ND; Unit Price: 27.29; MFG_PN: HUM-900-PRC-UFL
footprint PMG_MODULE_HUM-900-PRC-UFL (RX TXRX MOD ISM < 1GHZ U.FL SMD)
pins: 1 S7, 2 S6, 3 S5, 4 S4, 5 S3, 6 S2, 7 S1, 8 S0, 9 GND, 10 C0, 11 C1, 12 ~{PWR_DWN}, 13 LATCH_EN, 18 GND, 19 ANT, 21 VCC, 22 ~{RESET}, 23 LNA_EN, 24 PA_EN, 25 GND, 26 CMD_DATA_OUT, 27 CMD_DATA_IN, 28 ACK_EN, 29 PB, 30 MODE_IND, 31 ACK_OUT, 32 GND
text: NC

## PMG_MOSFET_NCH_2N7002-7-F
designator Q?, comment value 60V  (hidden comment: 2N7002-7-F)
MOSFET N-CH 60V 115MA SOT23-3; MFG: Diodes Incorporated; Case/Package: SOT-23; Supplier 1: Digi-Key; Supplier Part Number 1: 2N7002-FDICT-ND; Unit Price: .20; MFG_PN: 2N7002-7-F
footprint SOT-23 (SOT23-3)
pins: 1 B, 2 E, 3 C

## PMG_MOSFET_PCH_IRLML5103PBF
designator Q?, comment value 30V  (hidden comment: IRLML5103PBF)
MOSFET P CHN, VDS=30V, RDSON = .6OHM, SOT 23; MFG: INTERNATIONAL RECTIFIER; Supplier 1: Digi-Key; Supplier Part Number 1: IRLML5103PBFCT-ND; Unit Price: .54; MFG_PN: IRLML5103PBF
footprint SOT-23 (SOT23-3)
pins: 1 B, 2 E, 3 C

## PMG_MOSFET_PCH_NTR3A30PZT1G
designator Q?, comment value 20V  (hidden comment: NTR3A30PZT1G)
MOSFET P-CH 20V 3A SOT23-3; MFG: ON Semiconductor; ComponentLink1Description: Manufacturer Link; ComponentLink1URL: http://www.fairchildsemi.com/; ComponentLink2Description: Datasheet; ComponentLink2URL: http://www.fairchildsemi.com/ds/2N%2F2N3904.pdf; Supplier 1: Digi-Key; Supplier Part Number 1: NTR3A30PZT1GOSCT-ND; Unit Price: .62; MFG_PN: NTR3A30PZT1G
footprint SOT-23 (SOT23-3)
pins: 1 B, 2 E, 3 C

## PMG_MOUNT_HOLE_5MM
designator MTH?  (no BOM)
3MM IN D. MT HOLE
footprint PMG_MT_HOLE_3MM (3MM IN D)
pins: 1

## PMG_MOUNT_HOLE_5MM_x3.3MM
designator MTH?  (no BOM)
3MM IN D. MT HOLE
footprint PMG_MT_HOLE_3.3MM (3.3MM IN D)
pins: 1

## PMG_MOUNT_HOLE_PGM_MODULE
designator MTH?  (value not drawn)  (no BOM)
3MM IN D. MT HOLE
footprint PMG_MT_HOLE_PMG_MODULE (245MIL OD, 134ID)
pins: 1

## PMG_MOUNT_PAD_300MILx100MIL
designator MTH?  (no BOM)
3MM IN D. MT HOLE
footprint PMG_MTN_PAD_SM (300mil x 100mil)
pins: 1

## PMG_NCH_2N7002-7-F
designator Q?, comment value 2.5V / 250mA  (hidden comment: 2N7002-7-F)
MOSFET N-CH 60V 115MA SOT23-3; MFG: Diodes Incorporated; Case/Package: SOT-23; Supplier 1: Digi-Key; Supplier Part Number 1: 2N7002-FDICT-ND; MFG_PN: 2N7002-7-F
footprint SOT-23 (SOT23-3)
pins: 1 B, 2 E, 3 C

## PMG_NPN_MMBT3904T-TP
designator Q?, comment value 40V  (hidden comment: MMBT3904T-TP)
NPN General Purpose Amplifier SOT 23; MFG: Micro Commercial Co; Micro Commercial Co: SOT-23; Supplier 1: Digi-Key; Supplier Part Number 1: MMBT3904LT3GOSCT-ND; Unit Price: 0.14; MFG_PN: MMBT3904T-TP
footprint SOT-23 (SOT23-3)
pins: 1 B, 2 E, 3 C

## PMG_NPN_MMBT4401LT1G
designator Q?, comment value 40V  (hidden comment: MMBT4401LT1G)
NPN General Purpose Amplifier SOT 23; MFG: ON Semiconductor; Micro Commercial Co: SOT-23; Supplier 1: Digi-Key; Supplier Part Number 1: MMBT4401LT1GOSCT-ND; MFG_PN: MMBT4401LT1G
footprint SOT-23 (SOT23-3)
pins: 1 B, 2 E, 3 C

## PMG_PTC_0ZCG0010FF2C
designator F?, comment value 100mA  Voltage: 60V  (hidden comment: 0ZCG0010FF2C)
RES SMD 270 OHM 1% 1/10W 0603; MFG: Bel Fuse Inc.; Case/Package: 1812; Supplier 1: Digi-Key; Supplier Part Number 1: 507-1754-1-ND; Unit Price: 0.12; MFG_PN: 0ZCG0010FF2C
footprint OZCG_SERIES (OZCG PTC IN SM 1812 PACKAGE)
pins: 1, 2

## PMG_RES_0_0603_1/10W_1%
designator R?, comment value 0  TOLERANCE: 1%  POWER: .10W  (hidden comment: RC0603JR-070RL)
RES SMD 0 OHM JUMPER 1/10W 0603; MFG: Yageo; Case/Package: 0603; MFG_PN: RC0603JR-070RL; Supplier 1: Digi-Key; Supplier Part Number 1: 311-0.0GRCT-ND; Unit Price: 0.10
footprint RES_0603 (RES 0603 .125W)
pins: 1, 2

## PMG_RES_1K_0603_1/10W_1%
designator R?, comment value 1K  TOLERANCE: 1%  POWER: .10W  (hidden comment: RC0603FR-071KL)
RES SMD 1K OHM 1% 1/10W 0603; MFG: Yageo; Case/Package: 0603; MFG_PN: RC0603FR-071KL; Supplier 1: Digi-Key; Supplier Part Number 1: 311-1.00KHRCT-ND; Unit Price: 0.10
footprint RES_0603 (RES 0603 .125W)
pins: 1, 2

## PMG_RES_1K_0805_1/8W_1%
designator R?, comment value 1K  TOLERANCE: 1%  POWER: .125W  (hidden comment: RC0805FR-071KL)
RES SMD 1K OHM 1% 1/8W 0805; MFG: Yageo; Case/Package: 0805; MFG_PN: RC0805FR-071KL; Supplier 1: Digi-Key; Supplier Part Number 1: 311-1.00KCRCT-ND
footprint RES_0805
pins: 1, 2

## PMG_RES_1M_0603_1/10W_1%
designator R?, comment value 1M  TOLERANCE: 1%  POWER: .10W  (hidden comment: RC0603FR-071ML)
RES SMD 1M OHM 1% 1/10W 0603; MFG: Yageo; Case/Package: 0603; MFG_PN: RC0603FR-071ML; Supplier 1: Digi-Key; Supplier Part Number 1: 311-1.00MHRCT-ND; Unit Price: 0.10
footprint RES_0603 (RES 0603 .125W)
pins: 1, 2

## PMG_RES_8.06K_0805_1/8W_1%
designator R?, comment value 8.06K  TOLERANCE: 1%  POWER: 0.125W  (hidden comment: RC0805FR-078K06L)
RES 8.06K OHM 1% 1/8W 0805; MFG: Yageo; Case/Package: 0805; MFG_PN: RC0805FR-078K06L; Supplier 1: Digi-Key; Supplier Part Number 1: 311-8.06KCRCT-ND; Unit Price: 0.1
footprint RES_0805
pins: 1, 2

## PMG_RES_10K_0603_1/10W_1%
designator R?, comment value 10K  TOLERANCE: 1%  POWER: .10W  (hidden comment: RC0603FR-0710KL)
RES SMD 10K OHM 1% 1/10W 0603; MFG: Yageo; Case/Package: 0603; MFG_PN: RC0603FR-0710KL; Supplier 1: Digi-Key; Supplier Part Number 1: 311-10.0KHRCT-ND; Unit Price: 0.10
footprint RES_0603 (RES 0603 .125W)
pins: 1, 2

## PMG_RES_10K_0805_1/4W_1%
designator R?, comment value 10K  TOLERANCE: 1%  POWER: .25W  (hidden comment: SG73S2ATTD1002F)
RES SMD 10K OHM 1% 1/4W 0805; MFG: KOA Speer Electronics, Inc.; Case/Package: 0805; MFG_PN: SG73S2ATTD1002F; Supplier 1: Digi-Key; Supplier Part Number 1: 2019-SG73S2ATTD1002FCT-ND; Unit Price: 0.16
footprint PMG_RES_0805
pins: 1, 2

## PMG_RES_10K_0805_1/4W_1%_1
designator R?, comment value 47K  TOLERANCE: 1%  POWER: .25W  (hidden comment: AC0805FR-7W47KL)
RES SMD 47K OHM 1% 1/4W 0805; MFG: Yageo; Case/Package: 0805; MFG_PN: AC0805FR-7W47KL; Supplier 1: Digi-Key; Supplier Part Number 1: 13-AC0805FR-7W47KLCT-ND; Unit Price: 0.13
footprint PMG_RES_0805
pins: 1, 2

## PMG_RES_20K_0805_1/8W_1%
designator R?, comment value 20K  TOLERANCE: 1%  POWER: 0.125W  (hidden comment: ERJ-6ENF2002V)
RES 20K OHM 1% 1/8W 0805; MFG: Panasonic Electronic Components; Case/Package: 0805; MFG_PN: ERJ-6ENF2002V; Supplier 1: Digi-Key; Supplier Part Number 1: P20.0KCCT-ND; Unit Price: 0.10
footprint PMG_RES_0805
pins: 1, 2

## PMG_RES_30_0603_1/10W_1%
designator R?, comment value 30  TOLERANCE: 1%  POWER: .10W  (hidden comment: RC0603FR-0730RL)
RES SMD 30 OHM 1% 1/10W 0603; MFG: Yageo; Case/Package: 0603; MFG_PN: RC0603FR-0730RL; Supplier 1: Digi-Key; Supplier Part Number 1: 311-30.0HRCT-ND; Unit Price: 0.10
footprint RES_0603 (RES 0603 .125W)
pins: 1, 2

## PMG_RES_30_0805_1/8W_1%
designator R?, comment value 30  TOLERANCE: 1%  POWER: 0.125W  (hidden comment: RC0805FR-0730RL)
RES 30 OHM 1% 1/8W 0805; MFG: Yageo; Case/Package: 0805; MFG_PN: RC0805FR-0730RL; Supplier 1: Digi-Key; Supplier Part Number 1: 311-30.0CRCT-ND; Unit Price: .10
footprint PMG_RES_0805
pins: 1, 2

## PMG_RES_45.3K_0603_1/10W_1%
designator R?, comment value 45.3K  TOLERANCE: 1%  POWER: .10W  (hidden comment: RC0603FR-0745K3L)
RES SMD 45.3K OHM 1% 1/10W 0603; MFG: Yageo; Case/Package: 0603; MFG_PN: RC0603FR-0745K3L; Supplier 1: Digi-Key; Supplier Part Number 1: 311-45.3KHRCT-ND; Unit Price: 0.10
footprint RES_0603 (RES 0603 .125W)
pins: 1, 2

## PMG_RES_84.5_0805_1/8W_1%
designator R?, comment value 84.5  TOLERANCE: 1%  POWER: 0.125W  (hidden comment: RC0805FR-0784R5L)
RES 84.5 OHM 1% 1/8W 0805; MFG: Yageo; Case/Package: 0805; MFG_PN: RC0805FR-0784R5L; Supplier 1: Digi-Key; Supplier Part Number 1: 311-84.5CRCT-ND; Unit Price: 0.10
footprint RES_0805
pins: 1, 2

## PMG_RES_100K_0603_1/10W_1%
designator R?, comment value 100K  TOLERANCE: 1%  POWER: .10W  (hidden comment: RC0603FR-07100KL)
RES SMD 100K OHM 1% 1/10W 0603; MFG: Yageo; Case/Package: 0603; MFG_PN: RC0603FR-07100KL; Supplier 1: Digi-Key; Supplier Part Number 1: 311-100KHRCT-ND; Unit Price: 0.10
footprint RES_0603 (RES 0603 .125W)
pins: 1, 2

## PMG_RES_100K_0805_1/4W_1%
designator R?, comment value 100K  TOLERANCE: 1%  POWER: .25W  (hidden comment: RK73H2ATTD1003F)
RES SMD 100K OHM 1% 1/4W 0805; MFG: KOA Speer Electronics, Inc.; Case/Package: 0805; MFG_PN: RK73H2ATTD1003F; Supplier 1: Digi-Key; Supplier Part Number 1: 2019-RK73H2ATTD1003FCT-ND
footprint PMG_RES_0805
pins: 1, 2

## PMG_RES_120_0805_1/4W_1%
designator R?, comment value 120  TOLERANCE: 1%  POWER: 0.25W  (hidden comment: RK73H2ATTD1200F)
RES 120 OHM 1% 1/4W 0805; MFG: KOA Speer Electronics, Inc.; Case/Package: 0805; MFG_PN: RK73H2ATTD1200F; Supplier 1: Digi-Key; Supplier Part Number 1: 2019-RK73H2ATTD1200FCT-ND; Unit Price: .10
footprint PMG_RES_0805
pins: 1, 2

## PMG_RES_270_0603_1/10W_1%
designator R?, comment value 270  TOLERANCE: 1%  POWER: .10W  (hidden comment: RC0603FR-07270RL)
RES SMD 270 OHM 1% 1/10W 0603; MFG: Yageo; Case/Package: 0603; MFG_PN: RC0603FR-07270RL; Supplier 1: Digi-Key; Supplier Part Number 1: 311-270HRCT-ND; Unit Price: 0.10
footprint RES_0603 (RES 0603 .125W)
pins: 1, 2

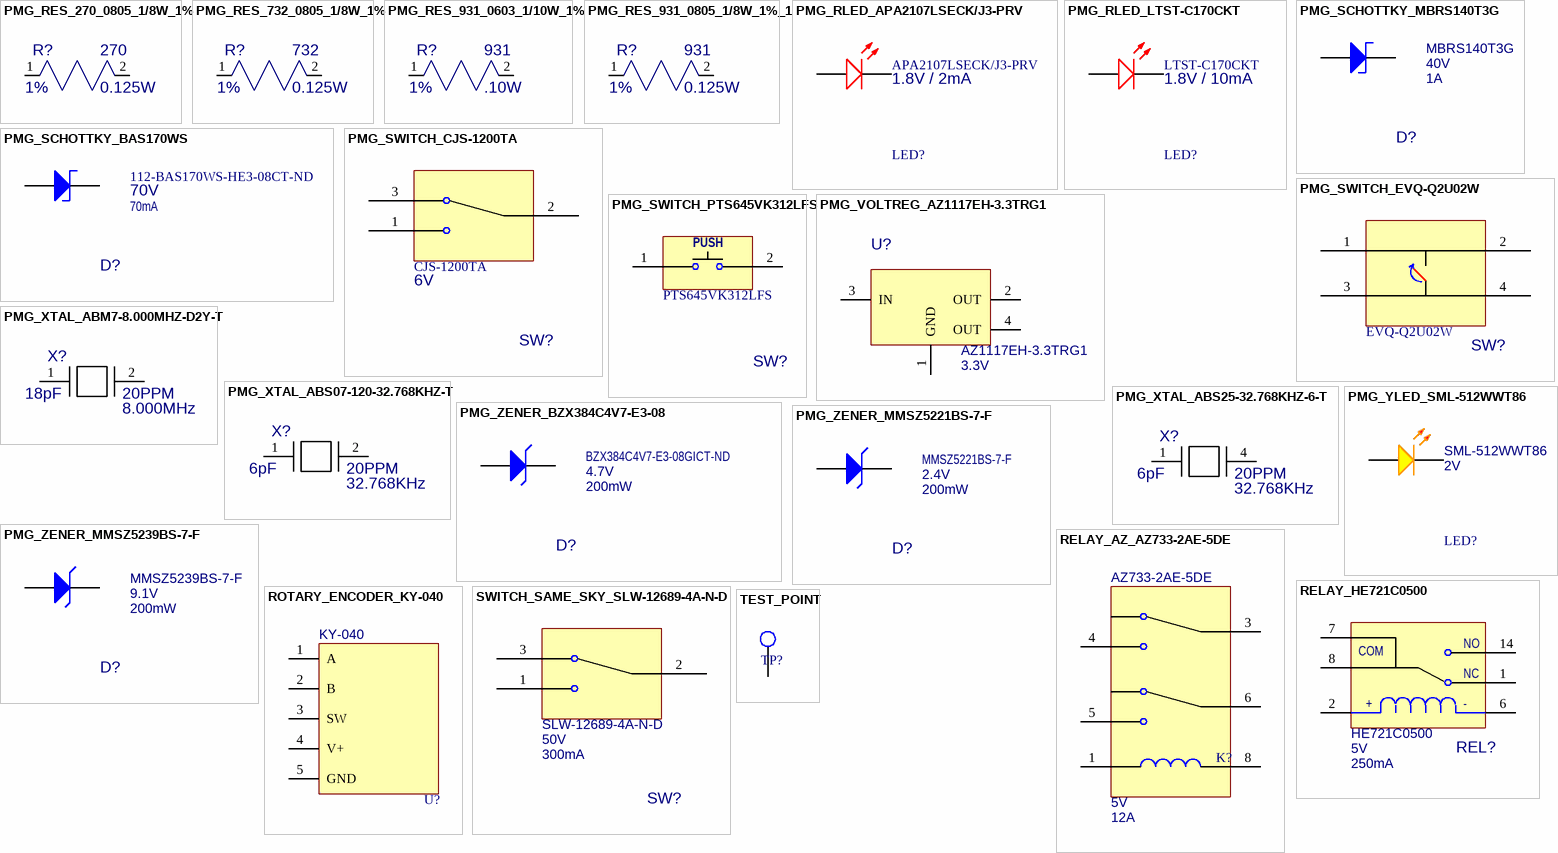
[diagram p3: symbols PMG_RES_270_0805_1/8W_1% to TEST_POINT]

## PMG_RES_270_0805_1/8W_1%
designator R?, comment value 270  TOLERANCE: 1%  POWER: 0.125W  (hidden comment: ERJ-6ENF2700V)
RES 270 OHM 1% 1/8W 0805; MFG: Panasonic Electronic Components; Case/Package: 0805; MFG_PN: ERJ-6ENF2700V; Supplier 1: Digi-Key; Supplier Part Number 1: P270CCT-ND; Unit Price: 0.10
footprint PMG_RES_0805
pins: 1, 2

## PMG_RES_732_0805_1/8W_1%
designator R?, comment value 732  TOLERANCE: 1%  POWER: 0.125W  (hidden comment: RC0805FR-07732RL)
RES 732 OHM 1% 1/8W 0805; MFG: Yageo; Case/Package: 0805; MFG_PN: RC0805FR-07732RL; Supplier 1: Digi-Key; Supplier Part Number 1: 311-732CRCT-ND; Unit Price: 0.1
footprint RES_0805
pins: 1, 2

## PMG_RES_931_0603_1/10W_1%
designator R?, comment value 931  TOLERANCE: 1%  POWER: .10W  (hidden comment: RC0603FR-07931RL)
RES SMD 931 OHM 1% 1/10W 0603; MFG: Yageo; Case/Package: 0603; MFG_PN: RC0603FR-07931RL; Supplier 1: Digi-Key; Supplier Part Number 1: 311-931HRCT-ND; Unit Price: 0.10
footprint RES_0603 (RES 0603 .125W)
pins: 1, 2

## PMG_RES_931_0805_1/8W_1%_1
designator R?, comment value 931  TOLERANCE: 1%  POWER: 0.125W  (hidden comment: ERJ-6ENF9310V)
RES 931 OHM 1% 1/8W 0805; MFG: Panasonic Electronic Components; Case/Package: 0805; MFG_PN: ERJ-6ENF9310V; Supplier 1: Digi-Key; Supplier Part Number 1: P931CCT-ND; Unit Price: 0.10
footprint RES_0805
pins: 1, 2

## PMG_RLED_APA2107LSECK/J3-PRV
designator LED?, comment value 1.8V / 2mA  (hidden comment: APA2107LSECK/J3-PRV)
DIODE, LED RED CLEAR SMD; MFG: Kingbright; Case/Package: APA2107; Supplier 1: Digi-Key; Supplier Part Number 1: 754-2094-1-ND; Unit Price: 0.54; MFG_PN: APA2107LSECK/J3-PRV
footprint PMG_RLED_APA2107LSECK/J3-PRV (LED RED SMD RA)
pins: 1 K, 2 A

## PMG_RLED_LTST-C170CKT
designator LED?, comment value 1.8V / 10mA  (hidden comment: LTST-C170CKT)
DIODE, LED RED CLEAR SMD; MFG: Lite-On Inc.; Case/Package: 0805; Supplier 1: Digi-Key; Supplier Part Number 1: 160-1176-1-ND; Unit Price: 0.35; MFG_PN: LTST-C170CKT
footprint PMG_LTST-C170CKT (LTST-C170CKT)
pins: 1 A, 2 K

## PMG_SCHOTTKY_BAS170WS
designator D?, comment value 70V  CURRENT: 70mA  (hidden comment: 112-BAS170WS-HE3-08CT-ND)
DIODE SCHOTTKY 70V 70mA SOD323; MFG: Vishay Semiconductor; Case/Package: SOD323; Supplier 1: Digi-Key; Supplier Part Number 1: MBRS140T3GOSCT-ND; MFG_PN: 112-BAS170WS-HE3-08CT-ND
footprint SOD323
pins: 1 A, 2 K

## PMG_SCHOTTKY_MBRS140T3G
designator D?, comment value 40V  CURRENT: 1A  (hidden comment: MBRS140T3G)
DIODE SCHOTTKY 40V 1A SMB; MFG: ON Semiconductor; Case/Package: SMB; Supplier 1: Digi-Key; Supplier Part Number 1: MBRS140T3GOSCT-ND; Unit Price: 0.37; MFG_PN: MBRS140T3G
footprint SMB (DIODE SCHOTTKY 40V 1A SMB)
pins: 1 A, 2 K

## PMG_SWITCH_CJS-1200TA
designator SW?, comment value 6V  (hidden comment: CJS-1200TA)
SWITCH SLIDE SPDT 100MA 6V; MFG: Nidec Copal Electronics; Case/Package: CJS-1200TA; Supplier 1: Digi-Key; Supplier Part Number 1: 563-1021-1-ND; Unit Price: 0.79; MFG_PN: CJS-1200TA
footprint SW_CJS-1200TA (SWITCH CJS-1200TA)
pins: 1, 2, 3

## PMG_SWITCH_EVQ-Q2U02W
designator SW?, comment EVQ-Q2U02W
SWITCH TACTILE SPST-NO 0.02A 15V; MFG: Panasonic Electronic Components; Case/Package: EVQ-Q2; Supplier 1: Digi-Key; Supplier Part Number 1: P12954SCT-ND; VALUE: 15V; Unit Price: 0.28; MFG_PN: EVQ-Q2U02W
footprint SW_EVQ-Q2U02W (SWITCH)
pins: 1 B, 2 B', 3 A, 4 A'

## PMG_SWITCH_PTS645VK312LFS
designator SW?, comment PTS645VK312LFS
SWITCH TACTILE SPST-NO 0.05A 12V; MFG: C&K; Case/Package: PTS645; Supplier 1: Digi-Key; Supplier Part Number 1: CKN10827-ND; VALUE: 12V; Unit Price: 0.27; MFG_PN: PTS645VK312LFS
footprint SW_PTS645 (SWITCH C&K PTS645 SERIES)
pins: 1 B, 2 B'
text: PUSH

## PMG_VOLTREG_AZ1117EH-3.3TRG1
designator U?, comment value 3.3V  (hidden comment: AZ1117EH-3.3TRG1)
Linear Voltage Regulator IC Output 1A SOT-223; MFG: Diodes Incorporated; Supplier 1: Digi-Key; Supplier Part Number 1: AZ1117EH-3.3TRG1DICT-ND; Case/Package: SOT223; Unit Price: 0.42; MFG_PN: AZ1117EH-3.3TRG1
footprint SOT223
pins: 1 GND, 2 OUT, 3 IN, 4 OUT

## PMG_XTAL_ABM7-8.000MHZ-D2Y-T
designator X?, comment value 8.000MHz  TOLERANCE: 20PPM  LOAD CAP: 18pF  (hidden comment: ABM7-8.000MHZ-D2Y-T)
CRYSTAL 8.0000MHZ 18PF SMD; MFG: Abracon LLC; Case/Package: 2-SMD; MFG_PN: ABM7-8.000MHZ-D2Y-T; Supplier 1: Digi-Key; Supplier Part Number 1: 535-9831-1-ND; Unit Price: 0.50
footprint XTAL_ABM7 (ABRACON LLC CRYSTAL)
pins: 1, 2

## PMG_XTAL_ABS07-120-32.768KHZ-T
designator X?, comment value 32.768KHz  TOLERANCE: 20PPM  LOAD CAP: 6pF  (hidden comment: ABS07-120-32.768KHZ-T)
CRYSTAL 32.7680KHZ 6PF SMD; MFG: Abracon LLC; Case/Package: 2-SMD; MFG_PN: ABS07-120-32.768KHZ-T; Supplier 1: Digi-Key; Supplier Part Number 1: 535-11937-1-ND; Unit Price: 1.36
footprint XTAL_ABS07 (ABRACON LLC CRYSTAL)
pins: 1, 2

## PMG_XTAL_ABS25-32.768KHZ-6-T
designator X?, comment value 32.768KHz  TOLERANCE: 20PPM  LOAD CAP: 6pF  (hidden comment: ABS25-32.768KHZ-6-T)
CRYSTAL 32.7680KHZ 6PF SMD; MFG: Abracon LLC; Case/Package: 2-SMD; MFG_PN: ABS25-32.768KHZ-6-T; Supplier 1: Digi-Key; Supplier Part Number 1: 535-10240-1-ND; Unit Price: .73
footprint XTAL_ABS25-32.768KHZ-6-T
pins: 1, 4

## PMG_YLED_SML-512WWT86
designator LED?, comment value 2V  (hidden comment: SML-512WWT86)
LED YELLOW DIFFUSED 0603 SMD; MFG: Rohm Semiconductor; Case/Package: 0603; Supplier 1: Digi-Key; Supplier Part Number 1: 511-1315-1-ND; Unit Price: 0.49; MFG_PN: SML-512WWT86
footprint PMG_YLED_SML-512WWT86 (LED YELLOW DIFFUSED 0603 SMD)
pins: 1 A, 2 K

## PMG_ZENER_BZX384C4V7-E3-08
designator D?, comment value 4.7V  POWER: 200mW  (hidden comment: BZX384C4V7-E3-08GICT-ND)
DIODE ZENER 4.7V 200MW SOD323; MFG: Vishay Semiconductor; Case/Package: SOD323; Supplier 1: Digi-Key; Supplier Part Number 1: BZX384C4V7-E3-08; Unit Price: 0.25; MFG_PN: BZX384C4V7-E3-08GICT-ND
footprint SOD323
pins: 1 A, 2 K

## PMG_ZENER_MMSZ5221BS-7-F
designator D?, comment value 2.4V  POWER: 200mW  (hidden comment: MMSZ5221BS-7-F)
DIODE ZENER 2.4V 200MW SOD323; MFG: Vishay Semiconductor; Case/Package: SOD323; Supplier 1: Digi-Key; Supplier Part Number 1: MMSZ5221BS-FDICT-ND; Unit Price: 0.27; Unit Price: 0.26; MFG_PN: MMSZ5221BS-7-F
footprint SOD323
pins: 1 A, 2 K

## PMG_ZENER_MMSZ5239BS-7-F
designator D?, comment value 9.1V  POWER: 200mW  (hidden comment: MMSZ5239BS-7-F)
DIODE ZENER 9.1V 200MW SOD323; MFG: Vishay Semiconductor; Case/Package: SOD323; Supplier 1: Digi-Key; Supplier Part Number 1: MMSZ5239BS-FDICT-ND; MFG_PN: MMSZ5239BS-7-F
footprint SOD323
pins: 1 A, 2 K

## RELAY_AZ_AZ733-2AE-5DE
designator K?, comment value 5V  Current: 12A  (hidden comment: AZ733-2AE-5DE)
RELAY DPST-NO 5V COIL 12A; MFG: American Zettler; Case/Package: SLW-12689-4A-N-D; Supplier 1: Digi-Key; Supplier Part Number 1: 3385-AZ733-2AE-5DE-ND; Unit Price: 2.18; MFG_PN: AZ733-2AE-5DE
pins: 1, 3, 4, 5, 6, 8

## RELAY_HE721C0500
designator REL?, comment value 5V  Current: 250mA  (hidden comment: HE721C0500)
RELAY REED SPDT 250MA 5V; MFG: Littlefuse Inc.; Case/Package: HE700; Supplier 1: Digi-Key; Supplier Part Number 1: HE112-ND; Unit Price: 3.77; MFG_PN: HE721C0500
footprint HE700 (Littlefuse HE700 series Reed relay)
pins: 1 NC, 2, 6, 7 COM, 8 COM, 14 NO
text: +; -

## ROTARY_ENCODER_KY-040
designator U?, comment KY-040
ROTARY ENCODER; MFG: UNKNOWN; Supplier 1: Amazon; MFG_PN: KY-040
footprint ROTARY_ENCODER_KY-040
pins: 1 A, 2 B, 3 SW, 4 V+, 5 GND

## SWITCH_SAME_SKY_SLW-12689-4A-N-D
designator SW?, comment value 50V  Current: 300mA  (hidden comment: SLW-12689-4A-N-D)
SWITCH SLIDE SPDT 300MA 50V; MFG: Same Sky; Case/Package: SLW-12689-4A-N-D; Supplier 1: Digi-Key; Supplier Part Number 1: 2223-SLW-12689-4A-N-D-ND; Unit Price: .48; MFG_PN: SLW-12689-4A-N-D
footprint SLW126894AND
pins: 1, 2, 3

## TEST_POINT
designator TP?  (value not drawn)  (no BOM)
TEST POINT 40MIL PAD X 20MIL HOLE
footprint TEST_POINT (HOLE_40MIL PAD 20MIL HOLE)
pins: 1